# EAGLE library part BREAKOUT12 (library connectors)
12-pins breakout connector Lieven Hollevoet
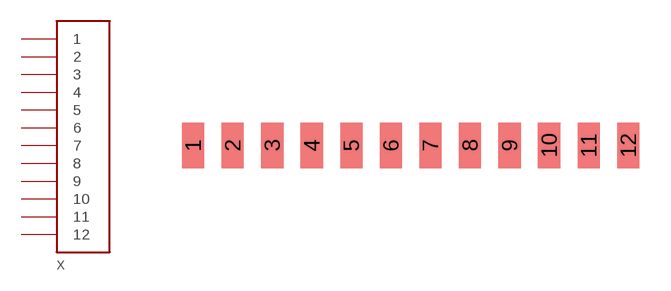
[diagram p1: symbol with the pads of BREAKOUT12; footprint BREAKOUT12]

Designator prefix X

## BREAKOUT12  [BREAKOUT12]
1  1
2  2
3  3
4  4
5  5
6  6
7  7
8  8
9  9
10  10
11  11
12  12

## Footprint BREAKOUT12 (pad centres in mm)
12 pins breakout connector footprint
smd 1.067 x 2.184: 1 -11.43,0; 2 -9.525,0; 3 -7.62,0; 4 -5.715,0; 5 -3.81,0; 6 -1.905,0; 7 0,0; 8 1.905,0; 9 3.81,0; 10 5.715,0; 11 7.62,0; 12 9.525,0